# Altium footprint library SW280408-1.PcbLib: 1 footprints
Each footprint in its own frame and in the unit in brackets; x right, y up, seen from the top. Pads: shape width x height; smd on the part's side, far side on the other; paste and mask are expansions set on the pad; w line width, h text height; cw(c..) or ccw(c..) is an arc to the next point about the centre after c.
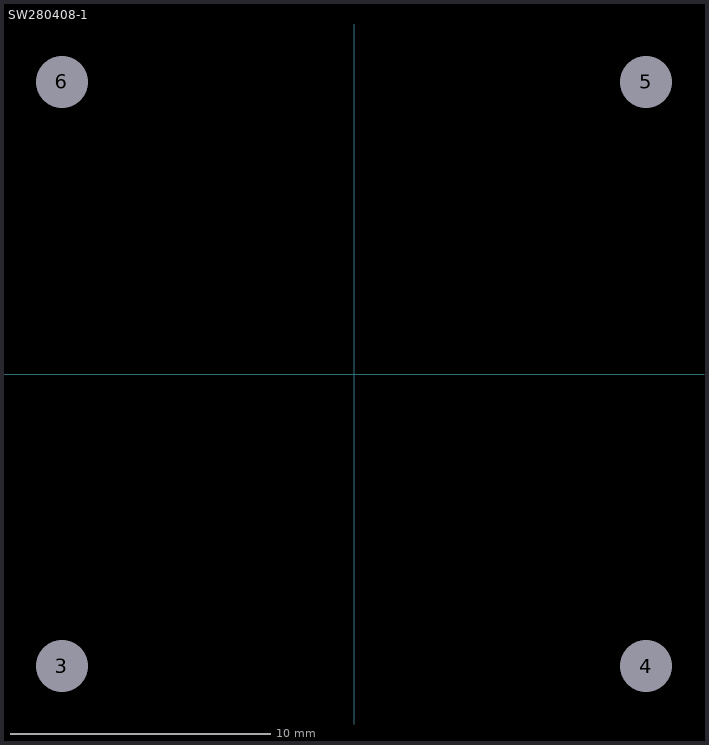
[diagram p0: the footprint, top view; thin cyan lines are the x and y axes]

## SW280408-1 [mm]
pads (4):
  round 1 hole 2 unplated: 3(-11.25,-11.25) 4(11.25,-11.25) 5(11.25,11.25) 6(-11.25,11.25)